# Altium footprint library BGA_Sq_100P.PcbLib: 114 footprints (part 9 of 31)
Each footprint in its own frame and in the unit in brackets; x right, y up, seen from the top. Pads: shape width x height; smd on the part's side, far side on the other; paste and mask are expansions set on the pad; w line width, h text height; cw(c..) or ccw(c..) is an arc to the next point about the centre after c.
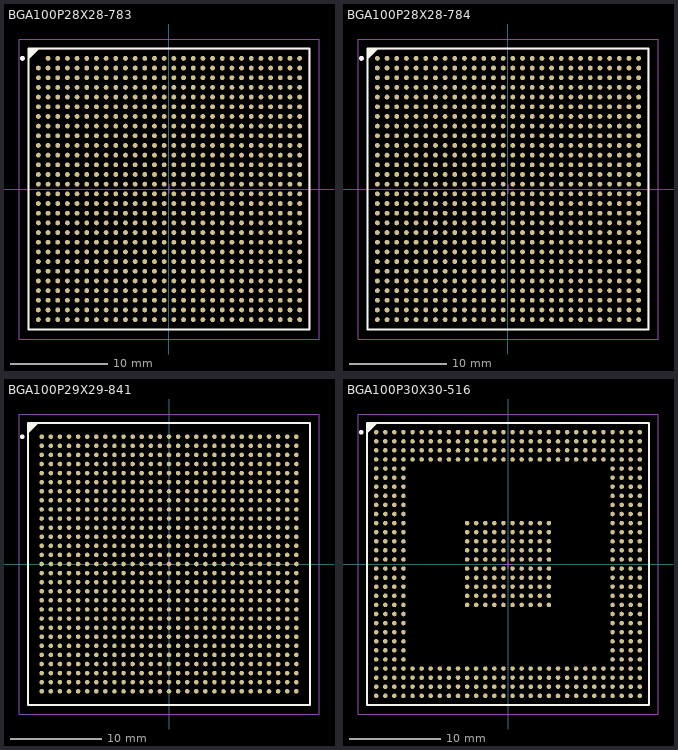
[diagram p8: the footprints below, top view; thin cyan lines are the x and y axes]

## BGA100P28X28-783 [mm] "BGA, 783-Leads, Body 29x29mm, Pitch 1mm"
height 3.27
pads (783):
  round 0.5 smd: A2(-12.5,13.5) A3(-11.5,13.5) A4(-10.5,13.5) A5(-9.5,13.5) A6(-8.5,13.5) A7(-7.5,13.5) A8(-6.5,13.5) A9(-5.5,13.5) A10(-4.5,13.5) A11(-3.5,13.5) A12(-2.5,13.5) A13(-1.5,13.5) A14(-0.5,13.5) A15(0.5,13.5) A16(1.5,13.5) A17(2.5,13.5) A18(3.5,13.5) A19(4.5,13.5) A20(5.5,13.5) A21(6.5,13.5) A22(7.5,13.5) A23(8.5,13.5) A24(9.5,13.5) A25(10.5,13.5) A26(11.5,13.5) A27(12.5,13.5) A28(13.5,13.5) AA1(-13.5,-6.5) AA2(-12.5,-6.5) AA3(-11.5,-6.5) AA4(-10.5,-6.5) AA5(-9.5,-6.5) AA6(-8.5,-6.5) AA7(-7.5,-6.5) AA8(-6.5,-6.5) AA9(-5.5,-6.5) AA10(-4.5,-6.5) AA11(-3.5,-6.5) AA12(-2.5,-6.5) AA13(-1.5,-6.5) AA14(-0.5,-6.5) AA15(0.5,-6.5) AA16(1.5,-6.5) AA17(2.5,-6.5) AA18(3.5,-6.5) AA19(4.5,-6.5) AA20(5.5,-6.5) AA21(6.5,-6.5) AA22(7.5,-6.5) AA23(8.5,-6.5) AA24(9.5,-6.5) AA25(10.5,-6.5) AA26(11.5,-6.5) AA27(12.5,-6.5) AA28(13.5,-6.5) AB1(-13.5,-7.5) AB2(-12.5,-7.5) AB3(-11.5,-7.5) AB4(-10.5,-7.5) AB5(-9.5,-7.5) AB6(-8.5,-7.5) AB7(-7.5,-7.5) AB8(-6.5,-7.5) AB9(-5.5,-7.5) AB10(-4.5,-7.5) AB11(-3.5,-7.5) AB12(-2.5,-7.5) AB13(-1.5,-7.5) AB14(-0.5,-7.5) AB15(0.5,-7.5) AB16(1.5,-7.5) AB17(2.5,-7.5) AB18(3.5,-7.5) AB19(4.5,-7.5) AB20(5.5,-7.5) AB21(6.5,-7.5) AB22(7.5,-7.5) AB23(8.5,-7.5) AB24(9.5,-7.5) AB25(10.5,-7.5) AB26(11.5,-7.5) AB27(12.5,-7.5) AB28(13.5,-7.5) AC1(-13.5,-8.5) AC2(-12.5,-8.5) AC3(-11.5,-8.5) AC4(-10.5,-8.5) AC5(-9.5,-8.5) AC6(-8.5,-8.5) AC7(-7.5,-8.5) AC8(-6.5,-8.5) AC9(-5.5,-8.5) AC10(-4.5,-8.5) AC11(-3.5,-8.5) AC12(-2.5,-8.5) AC13(-1.5,-8.5) AC14(-0.5,-8.5) AC15(0.5,-8.5) AC16(1.5,-8.5) AC17(2.5,-8.5) AC18(3.5,-8.5) AC19(4.5,-8.5) AC20(5.5,-8.5) AC21(6.5,-8.5) AC22(7.5,-8.5) AC23(8.5,-8.5) AC24(9.5,-8.5) AC25(10.5,-8.5) AC26(11.5,-8.5) AC27(12.5,-8.5) AC28(13.5,-8.5) AD1(-13.5,-9.5) AD2(-12.5,-9.5) AD3(-11.5,-9.5) AD4(-10.5,-9.5) AD5(-9.5,-9.5) AD6(-8.5,-9.5) AD7(-7.5,-9.5) AD8(-6.5,-9.5) AD9(-5.5,-9.5) AD10(-4.5,-9.5) AD11(-3.5,-9.5) AD12(-2.5,-9.5) AD13(-1.5,-9.5) AD14(-0.5,-9.5) AD15(0.5,-9.5) AD16(1.5,-9.5) AD17(2.5,-9.5) AD18(3.5,-9.5) AD19(4.5,-9.5) AD20(5.5,-9.5) AD21(6.5,-9.5) AD22(7.5,-9.5) AD23(8.5,-9.5) AD24(9.5,-9.5) AD25(10.5,-9.5) AD26(11.5,-9.5) AD27(12.5,-9.5) AD28(13.5,-9.5) AE1(-13.5,-10.5) AE2(-12.5,-10.5) AE3(-11.5,-10.5) AE4(-10.5,-10.5) AE5(-9.5,-10.5) AE6(-8.5,-10.5) AE7(-7.5,-10.5) AE8(-6.5,-10.5) AE9(-5.5,-10.5) AE10(-4.5,-10.5) AE11(-3.5,-10.5) AE12(-2.5,-10.5) AE13(-1.5,-10.5) AE14(-0.5,-10.5) AE15(0.5,-10.5) AE16(1.5,-10.5) AE17(2.5,-10.5) AE18(3.5,-10.5) AE19(4.5,-10.5) AE20(5.5,-10.5) AE21(6.5,-10.5) AE22(7.5,-10.5) AE23(8.5,-10.5) AE24(9.5,-10.5) AE25(10.5,-10.5) AE26(11.5,-10.5) AE27(12.5,-10.5) AE28(13.5,-10.5) AF1(-13.5,-11.5) AF2(-12.5,-11.5) AF3(-11.5,-11.5) AF4(-10.5,-11.5) AF5(-9.5,-11.5) AF6(-8.5,-11.5) AF7(-7.5,-11.5) AF8(-6.5,-11.5) AF9(-5.5,-11.5) AF10(-4.5,-11.5) AF11(-3.5,-11.5) AF12(-2.5,-11.5) AF13(-1.5,-11.5) AF14(-0.5,-11.5) AF15(0.5,-11.5) AF16(1.5,-11.5) AF17(2.5,-11.5) AF18(3.5,-11.5) AF19(4.5,-11.5) AF20(5.5,-11.5) AF21(6.5,-11.5) AF22(7.5,-11.5) AF23(8.5,-11.5) AF24(9.5,-11.5) AF25(10.5,-11.5) AF26(11.5,-11.5) AF27(12.5,-11.5) AF28(13.5,-11.5) AG1(-13.5,-12.5) AG2(-12.5,-12.5) AG3(-11.5,-12.5) AG4(-10.5,-12.5) AG5(-9.5,-12.5) AG6(-8.5,-12.5) AG7(-7.5,-12.5) AG8(-6.5,-12.5) AG9(-5.5,-12.5) AG10(-4.5,-12.5) AG11(-3.5,-12.5) AG12(-2.5,-12.5) AG13(-1.5,-12.5) AG14(-0.5,-12.5) AG15(0.5,-12.5) AG16(1.5,-12.5) AG17(2.5,-12.5) AG18(3.5,-12.5) AG19(4.5,-12.5) AG20(5.5,-12.5) AG21(6.5,-12.5) AG22(7.5,-12.5) AG23(8.5,-12.5) AG24(9.5,-12.5) AG25(10.5,-12.5) AG26(11.5,-12.5) AG27(12.5,-12.5) AG28(13.5,-12.5) AH1(-13.5,-13.5) AH2(-12.5,-13.5) AH3(-11.5,-13.5) AH4(-10.5,-13.5) AH5(-9.5,-13.5) AH6(-8.5,-13.5) AH7(-7.5,-13.5) AH8(-6.5,-13.5) AH9(-5.5,-13.5) AH10(-4.5,-13.5) AH11(-3.5,-13.5) AH12(-2.5,-13.5) AH13(-1.5,-13.5) AH14(-0.5,-13.5) AH15(0.5,-13.5) AH16(1.5,-13.5) AH17(2.5,-13.5) AH18(3.5,-13.5) AH19(4.5,-13.5) AH20(5.5,-13.5) AH21(6.5,-13.5) AH22(7.5,-13.5) AH23(8.5,-13.5) AH24(9.5,-13.5) AH25(10.5,-13.5) AH26(11.5,-13.5) AH27(12.5,-13.5) AH28(13.5,-13.5) B1(-13.5,12.5) B2(-12.5,12.5) B3(-11.5,12.5) B4(-10.5,12.5) B5(-9.5,12.5) B6(-8.5,12.5) B7(-7.5,12.5) B8(-6.5,12.5) B9(-5.5,12.5) B10(-4.5,12.5) B11(-3.5,12.5) B12(-2.5,12.5) B13(-1.5,12.5) B14(-0.5,12.5) B15(0.5,12.5) B16(1.5,12.5) B17(2.5,12.5) B18(3.5,12.5) B19(4.5,12.5) B20(5.5,12.5) B21(6.5,12.5) B22(7.5,12.5) B23(8.5,12.5) B24(9.5,12.5) B25(10.5,12.5) B26(11.5,12.5) B27(12.5,12.5) B28(13.5,12.5) C1(-13.5,11.5) C2(-12.5,11.5) C3(-11.5,11.5) C4(-10.5,11.5) C5(-9.5,11.5) C6(-8.5,11.5) C7(-7.5,11.5) C8(-6.5,11.5) C9(-5.5,11.5) C10(-4.5,11.5) C11(-3.5,11.5) C12(-2.5,11.5) C13(-1.5,11.5) C14(-0.5,11.5) C15(0.5,11.5) C16(1.5,11.5) C17(2.5,11.5) C18(3.5,11.5) C19(4.5,11.5) C20(5.5,11.5) C21(6.5,11.5) C22(7.5,11.5) C23(8.5,11.5) C24(9.5,11.5) C25(10.5,11.5) C26(11.5,11.5) C27(12.5,11.5) C28(13.5,11.5) D1(-13.5,10.5) D2(-12.5,10.5) D3(-11.5,10.5) D4(-10.5,10.5) D5(-9.5,10.5) D6(-8.5,10.5) D7(-7.5,10.5) D8(-6.5,10.5) D9(-5.5,10.5) D10(-4.5,10.5) D11(-3.5,10.5) D12(-2.5,10.5) D13(-1.5,10.5) D14(-0.5,10.5) D15(0.5,10.5) D16(1.5,10.5) D17(2.5,10.5) D18(3.5,10.5) D19(4.5,10.5) D20(5.5,10.5) D21(6.5,10.5) D22(7.5,10.5) D23(8.5,10.5) D24(9.5,10.5) D25(10.5,10.5) D26(11.5,10.5) D27(12.5,10.5) D28(13.5,10.5) E1(-13.5,9.5) E2(-12.5,9.5) E3(-11.5,9.5) E4(-10.5,9.5) E5(-9.5,9.5) E6(-8.5,9.5) E7(-7.5,9.5) E8(-6.5,9.5) E9(-5.5,9.5) E10(-4.5,9.5) E11(-3.5,9.5) E12(-2.5,9.5) E13(-1.5,9.5) E14(-0.5,9.5) E15(0.5,9.5) E16(1.5,9.5) E17(2.5,9.5) E18(3.5,9.5) E19(4.5,9.5) E20(5.5,9.5) E21(6.5,9.5) E22(7.5,9.5) E23(8.5,9.5) E24(9.5,9.5) E25(10.5,9.5) E26(11.5,9.5) E27(12.5,9.5) E28(13.5,9.5) F1(-13.5,8.5) F2(-12.5,8.5) F3(-11.5,8.5) F4(-10.5,8.5) F5(-9.5,8.5) F6(-8.5,8.5) F7(-7.5,8.5) F8(-6.5,8.5) F9(-5.5,8.5) F10(-4.5,8.5) F11(-3.5,8.5) F12(-2.5,8.5) F13(-1.5,8.5) F14(-0.5,8.5) F15(0.5,8.5) F16(1.5,8.5) F17(2.5,8.5) F18(3.5,8.5) F19(4.5,8.5) F20(5.5,8.5) F21(6.5,8.5) F22(7.5,8.5) F23(8.5,8.5) F24(9.5,8.5) F25(10.5,8.5) F26(11.5,8.5) F27(12.5,8.5) F28(13.5,8.5) G1(-13.5,7.5) G2(-12.5,7.5) G3(-11.5,7.5) G4(-10.5,7.5) G5(-9.5,7.5) G6(-8.5,7.5) G7(-7.5,7.5) G8(-6.5,7.5) G9(-5.5,7.5) G10(-4.5,7.5) G11(-3.5,7.5) G12(-2.5,7.5) G13(-1.5,7.5) G14(-0.5,7.5) G15(0.5,7.5) G16(1.5,7.5) G17(2.5,7.5) G18(3.5,7.5) G19(4.5,7.5) G20(5.5,7.5) G21(6.5,7.5) G22(7.5,7.5) G23(8.5,7.5) G24(9.5,7.5) G25(10.5,7.5) G26(11.5,7.5) G27(12.5,7.5) G28(13.5,7.5) H1(-13.5,6.5) H2(-12.5,6.5) H3(-11.5,6.5) H4(-10.5,6.5) H5(-9.5,6.5) H6(-8.5,6.5) H7(-7.5,6.5) H8(-6.5,6.5) H9(-5.5,6.5) H10(-4.5,6.5) H11(-3.5,6.5) H12(-2.5,6.5) H13(-1.5,6.5) H14(-0.5,6.5) H15(0.5,6.5) H16(1.5,6.5) H17(2.5,6.5) H18(3.5,6.5) H19(4.5,6.5) H20(5.5,6.5) H21(6.5,6.5) H22(7.5,6.5) H23(8.5,6.5) H24(9.5,6.5) H25(10.5,6.5) H26(11.5,6.5) H27(12.5,6.5) H28(13.5,6.5) J1(-13.5,5.5) J2(-12.5,5.5) J3(-11.5,5.5) J4(-10.5,5.5) J5(-9.5,5.5) J6(-8.5,5.5) J7(-7.5,5.5) J8(-6.5,5.5) J9(-5.5,5.5) J10(-4.5,5.5) J11(-3.5,5.5) J12(-2.5,5.5) J13(-1.5,5.5) J14(-0.5,5.5) J15(0.5,5.5) J16(1.5,5.5) J17(2.5,5.5) J18(3.5,5.5) J19(4.5,5.5) J20(5.5,5.5) J21(6.5,5.5) J22(7.5,5.5) J23(8.5,5.5) J24(9.5,5.5) J25(10.5,5.5) J26(11.5,5.5) J27(12.5,5.5) J28(13.5,5.5) K1(-13.5,4.5) K2(-12.5,4.5) K3(-11.5,4.5) K4(-10.5,4.5) K5(-9.5,4.5) K6(-8.5,4.5) K7(-7.5,4.5) K8(-6.5,4.5) K9(-5.5,4.5) K10(-4.5,4.5) K11(-3.5,4.5) K12(-2.5,4.5) K13(-1.5,4.5) K14(-0.5,4.5) K15(0.5,4.5) K16(1.5,4.5) K17(2.5,4.5) K18(3.5,4.5) K19(4.5,4.5) K20(5.5,4.5) K21(6.5,4.5) K22(7.5,4.5) K23(8.5,4.5) K24(9.5,4.5) K25(10.5,4.5) K26(11.5,4.5) K27(12.5,4.5) K28(13.5,4.5) L1(-13.5,3.5) L2(-12.5,3.5) L3(-11.5,3.5) L4(-10.5,3.5) L5(-9.5,3.5) L6(-8.5,3.5) L7(-7.5,3.5) L8(-6.5,3.5) L9(-5.5,3.5) L10(-4.5,3.5) L11(-3.5,3.5) L12(-2.5,3.5) L13(-1.5,3.5) L14(-0.5,3.5) L15(0.5,3.5) L16(1.5,3.5) L17(2.5,3.5) L18(3.5,3.5) L19(4.5,3.5) L20(5.5,3.5) L21(6.5,3.5) L22(7.5,3.5) L23(8.5,3.5) L24(9.5,3.5) L25(10.5,3.5) L26(11.5,3.5) L27(12.5,3.5) L28(13.5,3.5) M1(-13.5,2.5) M2(-12.5,2.5) M3(-11.5,2.5) M4(-10.5,2.5) M5(-9.5,2.5) M6(-8.5,2.5) M7(-7.5,2.5) M8(-6.5,2.5) M9(-5.5,2.5) M10(-4.5,2.5) M11(-3.5,2.5) M12(-2.5,2.5) M13(-1.5,2.5) M14(-0.5,2.5) M15(0.5,2.5) M16(1.5,2.5) M17(2.5,2.5) M18(3.5,2.5) M19(4.5,2.5) M20(5.5,2.5) M21(6.5,2.5) M22(7.5,2.5) M23(8.5,2.5) M24(9.5,2.5) M25(10.5,2.5) M26(11.5,2.5) M27(12.5,2.5) M28(13.5,2.5) N1(-13.5,1.5) N2(-12.5,1.5) N3(-11.5,1.5) N4(-10.5,1.5) N5(-9.5,1.5) N6(-8.5,1.5) N7(-7.5,1.5) N8(-6.5,1.5) N9(-5.5,1.5) N10(-4.5,1.5) N11(-3.5,1.5) N12(-2.5,1.5) N13(-1.5,1.5) N14(-0.5,1.5) N15(0.5,1.5) N16(1.5,1.5) N17(2.5,1.5) N18(3.5,1.5) N19(4.5,1.5) N20(5.5,1.5) N21(6.5,1.5) N22(7.5,1.5) N23(8.5,1.5) N24(9.5,1.5) N25(10.5,1.5) N26(11.5,1.5) N27(12.5,1.5) N28(13.5,1.5) P1(-13.5,0.5) P2(-12.5,0.5) P3(-11.5,0.5) P4(-10.5,0.5) P5(-9.5,0.5) P6(-8.5,0.5) P7(-7.5,0.5) P8(-6.5,0.5) P9(-5.5,0.5) P10(-4.5,0.5) P11(-3.5,0.5) P12(-2.5,0.5) P13(-1.5,0.5) P14(-0.5,0.5) P15(0.5,0.5) P16(1.5,0.5) P17(2.5,0.5) P18(3.5,0.5) P19(4.5,0.5) P20(5.5,0.5) P21(6.5,0.5) P22(7.5,0.5) P23(8.5,0.5) P24(9.5,0.5) P25(10.5,0.5) P26(11.5,0.5) P27(12.5,0.5) P28(13.5,0.5) R1(-13.5,-0.5) R2(-12.5,-0.5) R3(-11.5,-0.5) R4(-10.5,-0.5) R5(-9.5,-0.5) R6(-8.5,-0.5) R7(-7.5,-0.5) R8(-6.5,-0.5) R9(-5.5,-0.5) R10(-4.5,-0.5) R11(-3.5,-0.5) R12(-2.5,-0.5) R13(-1.5,-0.5) R14(-0.5,-0.5) R15(0.5,-0.5) R16(1.5,-0.5) R17(2.5,-0.5) R18(3.5,-0.5) R19(4.5,-0.5) R20(5.5,-0.5) R21(6.5,-0.5) R22(7.5,-0.5) R23(8.5,-0.5) R24(9.5,-0.5) R25(10.5,-0.5) R26(11.5,-0.5) R27(12.5,-0.5) R28(13.5,-0.5) T1(-13.5,-1.5) T2(-12.5,-1.5) T3(-11.5,-1.5) T4(-10.5,-1.5) T5(-9.5,-1.5) T6(-8.5,-1.5) T7(-7.5,-1.5) T8(-6.5,-1.5) T9(-5.5,-1.5) T10(-4.5,-1.5) T11(-3.5,-1.5) T12(-2.5,-1.5) T13(-1.5,-1.5) T14(-0.5,-1.5) T15(0.5,-1.5) T16(1.5,-1.5) T17(2.5,-1.5) T18(3.5,-1.5) T19(4.5,-1.5) T20(5.5,-1.5) T21(6.5,-1.5) T22(7.5,-1.5) T23(8.5,-1.5) T24(9.5,-1.5) T25(10.5,-1.5) T26(11.5,-1.5) T27(12.5,-1.5) T28(13.5,-1.5) U1(-13.5,-2.5) U2(-12.5,-2.5) U3(-11.5,-2.5) U4(-10.5,-2.5) U5(-9.5,-2.5) U6(-8.5,-2.5) U7(-7.5,-2.5) U8(-6.5,-2.5) U9(-5.5,-2.5) U10(-4.5,-2.5) U11(-3.5,-2.5) U12(-2.5,-2.5) U13(-1.5,-2.5) U14(-0.5,-2.5) U15(0.5,-2.5) U16(1.5,-2.5) U17(2.5,-2.5) U18(3.5,-2.5) U19(4.5,-2.5) U20(5.5,-2.5) U21(6.5,-2.5) U22(7.5,-2.5) U23(8.5,-2.5) U24(9.5,-2.5) U25(10.5,-2.5) U26(11.5,-2.5) U27(12.5,-2.5) U28(13.5,-2.5) V1(-13.5,-3.5) V2(-12.5,-3.5) V3(-11.5,-3.5) V4(-10.5,-3.5) V5(-9.5,-3.5) V6(-8.5,-3.5) V7(-7.5,-3.5) V8(-6.5,-3.5) V9(-5.5,-3.5) V10(-4.5,-3.5) V11(-3.5,-3.5) V12(-2.5,-3.5) V13(-1.5,-3.5) V14(-0.5,-3.5) V15(0.5,-3.5) V16(1.5,-3.5) V17(2.5,-3.5) V18(3.5,-3.5) V19(4.5,-3.5) V20(5.5,-3.5) V21(6.5,-3.5) V22(7.5,-3.5) V23(8.5,-3.5) V24(9.5,-3.5) V25(10.5,-3.5) V26(11.5,-3.5) V27(12.5,-3.5) V28(13.5,-3.5) W1(-13.5,-4.5) W2(-12.5,-4.5) W3(-11.5,-4.5) W4(-10.5,-4.5) W5(-9.5,-4.5) W6(-8.5,-4.5) W7(-7.5,-4.5) W8(-6.5,-4.5) W9(-5.5,-4.5) W10(-4.5,-4.5) W11(-3.5,-4.5) W12(-2.5,-4.5) W13(-1.5,-4.5) W14(-0.5,-4.5) W15(0.5,-4.5) W16(1.5,-4.5) W17(2.5,-4.5) W18(3.5,-4.5) W19(4.5,-4.5) W20(5.5,-4.5) W21(6.5,-4.5) W22(7.5,-4.5) W23(8.5,-4.5) W24(9.5,-4.5) W25(10.5,-4.5) W26(11.5,-4.5) W27(12.5,-4.5) W28(13.5,-4.5) Y1(-13.5,-5.5) Y2(-12.5,-5.5) Y3(-11.5,-5.5) Y4(-10.5,-5.5) Y5(-9.5,-5.5) Y6(-8.5,-5.5) Y7(-7.5,-5.5) Y8(-6.5,-5.5) Y9(-5.5,-5.5) Y10(-4.5,-5.5) Y11(-3.5,-5.5) Y12(-2.5,-5.5) Y13(-1.5,-5.5) Y14(-0.5,-5.5) Y15(0.5,-5.5) Y16(1.5,-5.5) Y17(2.5,-5.5) Y18(3.5,-5.5) Y19(4.5,-5.5) Y20(5.5,-5.5) Y21(6.5,-5.5) Y22(7.5,-5.5) Y23(8.5,-5.5) Y24(9.5,-5.5) Y25(10.5,-5.5) Y26(11.5,-5.5) Y27(12.5,-5.5) Y28(13.5,-5.5)
Top Overlay:
  circle w0.25: c-15.15,13.5 r0.125
  region: -13.5,14.5 -14.5,13.5 -14.5,14.5
  lines w0.2: -14.5,13.5 -13.5,14.5 ; -14.5,-14.5 14.5,-14.5 14.5,14.5 -14.5,14.5 -14.5,-14.5
Mechanical 13:
  lines w0.1: -14.5,-14.5 14.5,-14.5 14.5,14.5 -14.5,14.5 -14.5,-14.5
Mechanical 15:
  lines w0.1: -0.5,0 0.5,0 ; 0,-0.5 0,0.5 ; -15.5,-15.5 15.5,-15.5 15.5,15.5 -15.5,15.5 -15.5,-15.5
3D body: height 0, standoff 0, extent -14.5,-14.5 14.5,14.5

## BGA100P28X28-784 [mm] "BGA, 784-Leads, Body 29x29mm, Pitch 1mm"
height 3.5
pads (784):
  round 0.5 smd: A1(-13.5,13.5) A2(-12.5,13.5) A3(-11.5,13.5) A4(-10.5,13.5) A5(-9.5,13.5) A6(-8.5,13.5) A7(-7.5,13.5) A8(-6.5,13.5) A9(-5.5,13.5) A10(-4.5,13.5) A11(-3.5,13.5) A12(-2.5,13.5) A13(-1.5,13.5) A14(-0.5,13.5) A15(0.5,13.5) A16(1.5,13.5) A17(2.5,13.5) A18(3.5,13.5) A19(4.5,13.5) A20(5.5,13.5) A21(6.5,13.5) A22(7.5,13.5) A23(8.5,13.5) A24(9.5,13.5) A25(10.5,13.5) A26(11.5,13.5) A27(12.5,13.5) A28(13.5,13.5) AA1(-13.5,-6.5) AA2(-12.5,-6.5) AA3(-11.5,-6.5) AA4(-10.5,-6.5) AA5(-9.5,-6.5) AA6(-8.5,-6.5) AA7(-7.5,-6.5) AA8(-6.5,-6.5) AA9(-5.5,-6.5) AA10(-4.5,-6.5) AA11(-3.5,-6.5) AA12(-2.5,-6.5) AA13(-1.5,-6.5) AA14(-0.5,-6.5) AA15(0.5,-6.5) AA16(1.5,-6.5) AA17(2.5,-6.5) AA18(3.5,-6.5) AA19(4.5,-6.5) AA20(5.5,-6.5) AA21(6.5,-6.5) AA22(7.5,-6.5) AA23(8.5,-6.5) AA24(9.5,-6.5) AA25(10.5,-6.5) AA26(11.5,-6.5) AA27(12.5,-6.5) AA28(13.5,-6.5) AB1(-13.5,-7.5) AB2(-12.5,-7.5) AB3(-11.5,-7.5) AB4(-10.5,-7.5) AB5(-9.5,-7.5) AB6(-8.5,-7.5) AB7(-7.5,-7.5) AB8(-6.5,-7.5) AB9(-5.5,-7.5) AB10(-4.5,-7.5) AB11(-3.5,-7.5) AB12(-2.5,-7.5) AB13(-1.5,-7.5) AB14(-0.5,-7.5) AB15(0.5,-7.5) AB16(1.5,-7.5) AB17(2.5,-7.5) AB18(3.5,-7.5) AB19(4.5,-7.5) AB20(5.5,-7.5) AB21(6.5,-7.5) AB22(7.5,-7.5) AB23(8.5,-7.5) AB24(9.5,-7.5) AB25(10.5,-7.5) AB26(11.5,-7.5) AB27(12.5,-7.5) AB28(13.5,-7.5) AC1(-13.5,-8.5) AC2(-12.5,-8.5) AC3(-11.5,-8.5) AC4(-10.5,-8.5) AC5(-9.5,-8.5) AC6(-8.5,-8.5) AC7(-7.5,-8.5) AC8(-6.5,-8.5) AC9(-5.5,-8.5) AC10(-4.5,-8.5) AC11(-3.5,-8.5) AC12(-2.5,-8.5) AC13(-1.5,-8.5) AC14(-0.5,-8.5) AC15(0.5,-8.5) AC16(1.5,-8.5) AC17(2.5,-8.5) AC18(3.5,-8.5) AC19(4.5,-8.5) AC20(5.5,-8.5) AC21(6.5,-8.5) AC22(7.5,-8.5) AC23(8.5,-8.5) AC24(9.5,-8.5) AC25(10.5,-8.5) AC26(11.5,-8.5) AC27(12.5,-8.5) AC28(13.5,-8.5) AD1(-13.5,-9.5) AD2(-12.5,-9.5) AD3(-11.5,-9.5) AD4(-10.5,-9.5) AD5(-9.5,-9.5) AD6(-8.5,-9.5) AD7(-7.5,-9.5) AD8(-6.5,-9.5) AD9(-5.5,-9.5) AD10(-4.5,-9.5) AD11(-3.5,-9.5) AD12(-2.5,-9.5) AD13(-1.5,-9.5) AD14(-0.5,-9.5) AD15(0.5,-9.5) AD16(1.5,-9.5) AD17(2.5,-9.5) AD18(3.5,-9.5) AD19(4.5,-9.5) AD20(5.5,-9.5) AD21(6.5,-9.5) AD22(7.5,-9.5) AD23(8.5,-9.5) AD24(9.5,-9.5) AD25(10.5,-9.5) AD26(11.5,-9.5) AD27(12.5,-9.5) AD28(13.5,-9.5) AE1(-13.5,-10.5) AE2(-12.5,-10.5) AE3(-11.5,-10.5) AE4(-10.5,-10.5) AE5(-9.5,-10.5) AE6(-8.5,-10.5) AE7(-7.5,-10.5) AE8(-6.5,-10.5) AE9(-5.5,-10.5) AE10(-4.5,-10.5) AE11(-3.5,-10.5) AE12(-2.5,-10.5) AE13(-1.5,-10.5) AE14(-0.5,-10.5) AE15(0.5,-10.5) AE16(1.5,-10.5) AE17(2.5,-10.5) AE18(3.5,-10.5) AE19(4.5,-10.5) AE20(5.5,-10.5) AE21(6.5,-10.5) AE22(7.5,-10.5) AE23(8.5,-10.5) AE24(9.5,-10.5) AE25(10.5,-10.5) AE26(11.5,-10.5) AE27(12.5,-10.5) AE28(13.5,-10.5) AF1(-13.5,-11.5) AF2(-12.5,-11.5) AF3(-11.5,-11.5) AF4(-10.5,-11.5) AF5(-9.5,-11.5) AF6(-8.5,-11.5) AF7(-7.5,-11.5) AF8(-6.5,-11.5) AF9(-5.5,-11.5) AF10(-4.5,-11.5) AF11(-3.5,-11.5) AF12(-2.5,-11.5) AF13(-1.5,-11.5) AF14(-0.5,-11.5) AF15(0.5,-11.5) AF16(1.5,-11.5) AF17(2.5,-11.5) AF18(3.5,-11.5) AF19(4.5,-11.5) AF20(5.5,-11.5) AF21(6.5,-11.5) AF22(7.5,-11.5) AF23(8.5,-11.5) AF24(9.5,-11.5) AF25(10.5,-11.5) AF26(11.5,-11.5) AF27(12.5,-11.5) AF28(13.5,-11.5) AG1(-13.5,-12.5) AG2(-12.5,-12.5) AG3(-11.5,-12.5) AG4(-10.5,-12.5) AG5(-9.5,-12.5) AG6(-8.5,-12.5) AG7(-7.5,-12.5) AG8(-6.5,-12.5) AG9(-5.5,-12.5) AG10(-4.5,-12.5) AG11(-3.5,-12.5) AG12(-2.5,-12.5) AG13(-1.5,-12.5) AG14(-0.5,-12.5) AG15(0.5,-12.5) AG16(1.5,-12.5) AG17(2.5,-12.5) AG18(3.5,-12.5) AG19(4.5,-12.5) AG20(5.5,-12.5) AG21(6.5,-12.5) AG22(7.5,-12.5) AG23(8.5,-12.5) AG24(9.5,-12.5) AG25(10.5,-12.5) AG26(11.5,-12.5) AG27(12.5,-12.5) AG28(13.5,-12.5) AH1(-13.5,-13.5) AH2(-12.5,-13.5) AH3(-11.5,-13.5) AH4(-10.5,-13.5) AH5(-9.5,-13.5) AH6(-8.5,-13.5) AH7(-7.5,-13.5) AH8(-6.5,-13.5) AH9(-5.5,-13.5) AH10(-4.5,-13.5) AH11(-3.5,-13.5) AH12(-2.5,-13.5) AH13(-1.5,-13.5) AH14(-0.5,-13.5) AH15(0.5,-13.5) AH16(1.5,-13.5) AH17(2.5,-13.5) AH18(3.5,-13.5) AH19(4.5,-13.5) AH20(5.5,-13.5) AH21(6.5,-13.5) AH22(7.5,-13.5) AH23(8.5,-13.5) AH24(9.5,-13.5) AH25(10.5,-13.5) AH26(11.5,-13.5) AH27(12.5,-13.5) AH28(13.5,-13.5) B1(-13.5,12.5) B2(-12.5,12.5) B3(-11.5,12.5) B4(-10.5,12.5) B5(-9.5,12.5) B6(-8.5,12.5) B7(-7.5,12.5) B8(-6.5,12.5) B9(-5.5,12.5) B10(-4.5,12.5) B11(-3.5,12.5) B12(-2.5,12.5) B13(-1.5,12.5) B14(-0.5,12.5) B15(0.5,12.5) B16(1.5,12.5) B17(2.5,12.5) B18(3.5,12.5) B19(4.5,12.5) B20(5.5,12.5) B21(6.5,12.5) B22(7.5,12.5) B23(8.5,12.5) B24(9.5,12.5) B25(10.5,12.5) B26(11.5,12.5) B27(12.5,12.5) B28(13.5,12.5) C1(-13.5,11.5) C2(-12.5,11.5) C3(-11.5,11.5) C4(-10.5,11.5) C5(-9.5,11.5) C6(-8.5,11.5) C7(-7.5,11.5) C8(-6.5,11.5) C9(-5.5,11.5) C10(-4.5,11.5) C11(-3.5,11.5) C12(-2.5,11.5) C13(-1.5,11.5) C14(-0.5,11.5) C15(0.5,11.5) C16(1.5,11.5) C17(2.5,11.5) C18(3.5,11.5) C19(4.5,11.5) C20(5.5,11.5) C21(6.5,11.5) C22(7.5,11.5) C23(8.5,11.5) C24(9.5,11.5) C25(10.5,11.5) C26(11.5,11.5) C27(12.5,11.5) C28(13.5,11.5) D1(-13.5,10.5) D2(-12.5,10.5) D3(-11.5,10.5) D4(-10.5,10.5) D5(-9.5,10.5) D6(-8.5,10.5) D7(-7.5,10.5) D8(-6.5,10.5) D9(-5.5,10.5) D10(-4.5,10.5) D11(-3.5,10.5) D12(-2.5,10.5) D13(-1.5,10.5) D14(-0.5,10.5) D15(0.5,10.5) D16(1.5,10.5) D17(2.5,10.5) D18(3.5,10.5) D19(4.5,10.5) D20(5.5,10.5) D21(6.5,10.5) D22(7.5,10.5) D23(8.5,10.5) D24(9.5,10.5) D25(10.5,10.5) D26(11.5,10.5) D27(12.5,10.5) D28(13.5,10.5) E1(-13.5,9.5) E2(-12.5,9.5) E3(-11.5,9.5) E4(-10.5,9.5) E5(-9.5,9.5) E6(-8.5,9.5) E7(-7.5,9.5) E8(-6.5,9.5) E9(-5.5,9.5) E10(-4.5,9.5) E11(-3.5,9.5) E12(-2.5,9.5) E13(-1.5,9.5) E14(-0.5,9.5) E15(0.5,9.5) E16(1.5,9.5) E17(2.5,9.5) E18(3.5,9.5) E19(4.5,9.5) E20(5.5,9.5) E21(6.5,9.5) E22(7.5,9.5) E23(8.5,9.5) E24(9.5,9.5) E25(10.5,9.5) E26(11.5,9.5) E27(12.5,9.5) E28(13.5,9.5) F1(-13.5,8.5) F2(-12.5,8.5) F3(-11.5,8.5) F4(-10.5,8.5) F5(-9.5,8.5) F6(-8.5,8.5) F7(-7.5,8.5) F8(-6.5,8.5) F9(-5.5,8.5) F10(-4.5,8.5) F11(-3.5,8.5) F12(-2.5,8.5) F13(-1.5,8.5) F14(-0.5,8.5) F15(0.5,8.5) F16(1.5,8.5) F17(2.5,8.5) F18(3.5,8.5) F19(4.5,8.5) F20(5.5,8.5) F21(6.5,8.5) F22(7.5,8.5) F23(8.5,8.5) F24(9.5,8.5) F25(10.5,8.5) F26(11.5,8.5) F27(12.5,8.5) F28(13.5,8.5) G1(-13.5,7.5) G2(-12.5,7.5) G3(-11.5,7.5) G4(-10.5,7.5) G5(-9.5,7.5) G6(-8.5,7.5) G7(-7.5,7.5) G8(-6.5,7.5) G9(-5.5,7.5) G10(-4.5,7.5) G11(-3.5,7.5) G12(-2.5,7.5) G13(-1.5,7.5) G14(-0.5,7.5) G15(0.5,7.5) G16(1.5,7.5) G17(2.5,7.5) G18(3.5,7.5) G19(4.5,7.5) G20(5.5,7.5) G21(6.5,7.5) G22(7.5,7.5) G23(8.5,7.5) G24(9.5,7.5) G25(10.5,7.5) G26(11.5,7.5) G27(12.5,7.5) G28(13.5,7.5) H1(-13.5,6.5) H2(-12.5,6.5) H3(-11.5,6.5) H4(-10.5,6.5) H5(-9.5,6.5) H6(-8.5,6.5) H7(-7.5,6.5) H8(-6.5,6.5) H9(-5.5,6.5) H10(-4.5,6.5) H11(-3.5,6.5) H12(-2.5,6.5) H13(-1.5,6.5) H14(-0.5,6.5) H15(0.5,6.5) H16(1.5,6.5) H17(2.5,6.5) H18(3.5,6.5) H19(4.5,6.5) H20(5.5,6.5) H21(6.5,6.5) H22(7.5,6.5) H23(8.5,6.5) H24(9.5,6.5) H25(10.5,6.5) H26(11.5,6.5) H27(12.5,6.5) H28(13.5,6.5) J1(-13.5,5.5) J2(-12.5,5.5) J3(-11.5,5.5) J4(-10.5,5.5) J5(-9.5,5.5) J6(-8.5,5.5) J7(-7.5,5.5) J8(-6.5,5.5) J9(-5.5,5.5) J10(-4.5,5.5) J11(-3.5,5.5) J12(-2.5,5.5) J13(-1.5,5.5) J14(-0.5,5.5) J15(0.5,5.5) J16(1.5,5.5) J17(2.5,5.5) J18(3.5,5.5) J19(4.5,5.5) J20(5.5,5.5) J21(6.5,5.5) J22(7.5,5.5) J23(8.5,5.5) J24(9.5,5.5) J25(10.5,5.5) J26(11.5,5.5) J27(12.5,5.5) J28(13.5,5.5) K1(-13.5,4.5) K2(-12.5,4.5) K3(-11.5,4.5) K4(-10.5,4.5) K5(-9.5,4.5) K6(-8.5,4.5) K7(-7.5,4.5) K8(-6.5,4.5) K9(-5.5,4.5) K10(-4.5,4.5) K11(-3.5,4.5) K12(-2.5,4.5) K13(-1.5,4.5) K14(-0.5,4.5) K15(0.5,4.5) K16(1.5,4.5) K17(2.5,4.5) K18(3.5,4.5) K19(4.5,4.5) K20(5.5,4.5) K21(6.5,4.5) K22(7.5,4.5) K23(8.5,4.5) K24(9.5,4.5) K25(10.5,4.5) K26(11.5,4.5) K27(12.5,4.5) K28(13.5,4.5) L1(-13.5,3.5) L2(-12.5,3.5) L3(-11.5,3.5) L4(-10.5,3.5) L5(-9.5,3.5) L6(-8.5,3.5) L7(-7.5,3.5) L8(-6.5,3.5) L9(-5.5,3.5) L10(-4.5,3.5) L11(-3.5,3.5) L12(-2.5,3.5) L13(-1.5,3.5) L14(-0.5,3.5) L15(0.5,3.5) L16(1.5,3.5) L17(2.5,3.5) L18(3.5,3.5) L19(4.5,3.5) L20(5.5,3.5) L21(6.5,3.5) L22(7.5,3.5) L23(8.5,3.5) L24(9.5,3.5) L25(10.5,3.5) L26(11.5,3.5) L27(12.5,3.5) L28(13.5,3.5) M1(-13.5,2.5) M2(-12.5,2.5) M3(-11.5,2.5) M4(-10.5,2.5) M5(-9.5,2.5) M6(-8.5,2.5) M7(-7.5,2.5) M8(-6.5,2.5) M9(-5.5,2.5) M10(-4.5,2.5) M11(-3.5,2.5) M12(-2.5,2.5) M13(-1.5,2.5) M14(-0.5,2.5) M15(0.5,2.5) M16(1.5,2.5) M17(2.5,2.5) M18(3.5,2.5) M19(4.5,2.5) M20(5.5,2.5) M21(6.5,2.5) M22(7.5,2.5) M23(8.5,2.5) M24(9.5,2.5) M25(10.5,2.5) M26(11.5,2.5) M27(12.5,2.5) M28(13.5,2.5) N1(-13.5,1.5) N2(-12.5,1.5) N3(-11.5,1.5) N4(-10.5,1.5) N5(-9.5,1.5) N6(-8.5,1.5) N7(-7.5,1.5) N8(-6.5,1.5) N9(-5.5,1.5) N10(-4.5,1.5) N11(-3.5,1.5) N12(-2.5,1.5) N13(-1.5,1.5) N14(-0.5,1.5) N15(0.5,1.5) N16(1.5,1.5) N17(2.5,1.5) N18(3.5,1.5) N19(4.5,1.5) N20(5.5,1.5) N21(6.5,1.5) N22(7.5,1.5) N23(8.5,1.5) N24(9.5,1.5) N25(10.5,1.5) N26(11.5,1.5) N27(12.5,1.5) N28(13.5,1.5) P1(-13.5,0.5) P2(-12.5,0.5) P3(-11.5,0.5) P4(-10.5,0.5) P5(-9.5,0.5) P6(-8.5,0.5) P7(-7.5,0.5) P8(-6.5,0.5) P9(-5.5,0.5) P10(-4.5,0.5) P11(-3.5,0.5) P12(-2.5,0.5) P13(-1.5,0.5) P14(-0.5,0.5) P15(0.5,0.5) P16(1.5,0.5) P17(2.5,0.5) P18(3.5,0.5) P19(4.5,0.5) P20(5.5,0.5) P21(6.5,0.5) P22(7.5,0.5) P23(8.5,0.5) P24(9.5,0.5) P25(10.5,0.5) P26(11.5,0.5) P27(12.5,0.5) P28(13.5,0.5) R1(-13.5,-0.5) R2(-12.5,-0.5) R3(-11.5,-0.5) R4(-10.5,-0.5) R5(-9.5,-0.5) R6(-8.5,-0.5) R7(-7.5,-0.5) R8(-6.5,-0.5) R9(-5.5,-0.5) R10(-4.5,-0.5) R11(-3.5,-0.5) R12(-2.5,-0.5) R13(-1.5,-0.5) R14(-0.5,-0.5) R15(0.5,-0.5) R16(1.5,-0.5) R17(2.5,-0.5) R18(3.5,-0.5) R19(4.5,-0.5) R20(5.5,-0.5) R21(6.5,-0.5) R22(7.5,-0.5) R23(8.5,-0.5) R24(9.5,-0.5) R25(10.5,-0.5) R26(11.5,-0.5) R27(12.5,-0.5) R28(13.5,-0.5) T1(-13.5,-1.5) T2(-12.5,-1.5) T3(-11.5,-1.5) T4(-10.5,-1.5) T5(-9.5,-1.5) T6(-8.5,-1.5) T7(-7.5,-1.5) T8(-6.5,-1.5) T9(-5.5,-1.5) T10(-4.5,-1.5) T11(-3.5,-1.5) T12(-2.5,-1.5) T13(-1.5,-1.5) T14(-0.5,-1.5) T15(0.5,-1.5) T16(1.5,-1.5) T17(2.5,-1.5) T18(3.5,-1.5) T19(4.5,-1.5) T20(5.5,-1.5) T21(6.5,-1.5) T22(7.5,-1.5) T23(8.5,-1.5) T24(9.5,-1.5) T25(10.5,-1.5) T26(11.5,-1.5) T27(12.5,-1.5) T28(13.5,-1.5) U1(-13.5,-2.5) U2(-12.5,-2.5) U3(-11.5,-2.5) U4(-10.5,-2.5) U5(-9.5,-2.5) U6(-8.5,-2.5) U7(-7.5,-2.5) U8(-6.5,-2.5) U9(-5.5,-2.5) U10(-4.5,-2.5) U11(-3.5,-2.5) U12(-2.5,-2.5) U13(-1.5,-2.5) U14(-0.5,-2.5) U15(0.5,-2.5) U16(1.5,-2.5) U17(2.5,-2.5) U18(3.5,-2.5) U19(4.5,-2.5) U20(5.5,-2.5) U21(6.5,-2.5) U22(7.5,-2.5) U23(8.5,-2.5) U24(9.5,-2.5) U25(10.5,-2.5) U26(11.5,-2.5) U27(12.5,-2.5) U28(13.5,-2.5) V1(-13.5,-3.5) V2(-12.5,-3.5) V3(-11.5,-3.5) V4(-10.5,-3.5) V5(-9.5,-3.5) V6(-8.5,-3.5) V7(-7.5,-3.5) V8(-6.5,-3.5) V9(-5.5,-3.5) V10(-4.5,-3.5) V11(-3.5,-3.5) V12(-2.5,-3.5) V13(-1.5,-3.5) V14(-0.5,-3.5) V15(0.5,-3.5) V16(1.5,-3.5) V17(2.5,-3.5) V18(3.5,-3.5) V19(4.5,-3.5) V20(5.5,-3.5) V21(6.5,-3.5) V22(7.5,-3.5) V23(8.5,-3.5) V24(9.5,-3.5) V25(10.5,-3.5) V26(11.5,-3.5) V27(12.5,-3.5) V28(13.5,-3.5) W1(-13.5,-4.5) W2(-12.5,-4.5) W3(-11.5,-4.5) W4(-10.5,-4.5) W5(-9.5,-4.5) W6(-8.5,-4.5) W7(-7.5,-4.5) W8(-6.5,-4.5) W9(-5.5,-4.5) W10(-4.5,-4.5) W11(-3.5,-4.5) W12(-2.5,-4.5) W13(-1.5,-4.5) W14(-0.5,-4.5) W15(0.5,-4.5) W16(1.5,-4.5) W17(2.5,-4.5) W18(3.5,-4.5) W19(4.5,-4.5) W20(5.5,-4.5) W21(6.5,-4.5) W22(7.5,-4.5) W23(8.5,-4.5) W24(9.5,-4.5) W25(10.5,-4.5) W26(11.5,-4.5) W27(12.5,-4.5) W28(13.5,-4.5) Y1(-13.5,-5.5) Y2(-12.5,-5.5) Y3(-11.5,-5.5) Y4(-10.5,-5.5) Y5(-9.5,-5.5) Y6(-8.5,-5.5) Y7(-7.5,-5.5) Y8(-6.5,-5.5) Y9(-5.5,-5.5) Y10(-4.5,-5.5) Y11(-3.5,-5.5) Y12(-2.5,-5.5) Y13(-1.5,-5.5) Y14(-0.5,-5.5) Y15(0.5,-5.5) Y16(1.5,-5.5) Y17(2.5,-5.5) Y18(3.5,-5.5) Y19(4.5,-5.5) Y20(5.5,-5.5) Y21(6.5,-5.5) Y22(7.5,-5.5) Y23(8.5,-5.5) Y24(9.5,-5.5) Y25(10.5,-5.5) Y26(11.5,-5.5) Y27(12.5,-5.5) Y28(13.5,-5.5)
Top Overlay:
  circle w0.25: c-15.15,13.5 r0.125
  region: -13.5,14.5 -14.5,13.5 -14.5,14.5
  lines w0.2: -14.5,13.5 -13.5,14.5 ; -14.5,-14.5 -14.5,14.5 14.5,14.5 14.5,-14.5 -14.5,-14.5
Mechanical 13:
  lines w0.1: -14.5,-14.5 -14.5,14.5 14.5,14.5 14.5,-14.5 -14.5,-14.5
Mechanical 15:
  lines w0.1: -0.5,0 0.5,0 ; 0,-0.5 0,0.5 ; -15.5,-15.5 -15.5,15.5 15.5,15.5 15.5,-15.5 -15.5,-15.5
3D body: height 0, standoff 0, extent -14.5,-14.5 14.5,14.5

## BGA100P29X29-841 [mm] "BGA, 841-Leads, Body 31x31mm, Pitch 1mm"
height 3.5
pads (841):
  round 0.5 smd: A1(-14,14) A2(-13,14) A3(-12,14) A4(-11,14) A5(-10,14) A6(-9,14) A7(-8,14) A8(-7,14) A9(-6,14) A10(-5,14) A11(-4,14) A12(-3,14) A13(-2,14) A14(-1,14) A15(0,14) A16(1,14) A17(2,14) A18(3,14) A19(4,14) A20(5,14) A21(6,14) A22(7,14) A23(8,14) A24(9,14) A25(10,14) A26(11,14) A27(12,14) A28(13,14) A29(14,14) AA1(-14,-6) AA2(-13,-6) AA3(-12,-6) AA4(-11,-6) AA5(-10,-6) AA6(-9,-6) AA7(-8,-6) AA8(-7,-6) AA9(-6,-6) AA10(-5,-6) AA11(-4,-6) AA12(-3,-6) AA13(-2,-6) AA14(-1,-6) AA15(0,-6) AA16(1,-6) AA17(2,-6) AA18(3,-6) AA19(4,-6) AA20(5,-6) AA21(6,-6) AA22(7,-6) AA23(8,-6) AA24(9,-6) AA25(10,-6) AA26(11,-6) AA27(12,-6) AA28(13,-6) AA29(14,-6) AB1(-14,-7) AB2(-13,-7) AB3(-12,-7) AB4(-11,-7) AB5(-10,-7) AB6(-9,-7) AB7(-8,-7) AB8(-7,-7) AB9(-6,-7) AB10(-5,-7) AB11(-4,-7) AB12(-3,-7) AB13(-2,-7) AB14(-1,-7) AB15(0,-7) AB16(1,-7) AB17(2,-7) AB18(3,-7) AB19(4,-7) AB20(5,-7) AB21(6,-7) AB22(7,-7) AB23(8,-7) AB24(9,-7) AB25(10,-7) AB26(11,-7) AB27(12,-7) AB28(13,-7) AB29(14,-7) AC1(-14,-8) AC2(-13,-8) AC3(-12,-8) AC4(-11,-8) AC5(-10,-8) AC6(-9,-8) AC7(-8,-8) AC8(-7,-8) AC9(-6,-8) AC10(-5,-8) AC11(-4,-8) AC12(-3,-8) AC13(-2,-8) AC14(-1,-8) AC15(0,-8) AC16(1,-8) AC17(2,-8) AC18(3,-8) AC19(4,-8) AC20(5,-8) AC21(6,-8) AC22(7,-8) AC23(8,-8) AC24(9,-8) AC25(10,-8) AC26(11,-8) AC27(12,-8) AC28(13,-8) AC29(14,-8) AD1(-14,-9) AD2(-13,-9) AD3(-12,-9) AD4(-11,-9) AD5(-10,-9) AD6(-9,-9) AD7(-8,-9) AD8(-7,-9) AD9(-6,-9) AD10(-5,-9) AD11(-4,-9) AD12(-3,-9) AD13(-2,-9) AD14(-1,-9) AD15(0,-9) AD16(1,-9) AD17(2,-9) AD18(3,-9) AD19(4,-9) AD20(5,-9) AD21(6,-9) AD22(7,-9) AD23(8,-9) AD24(9,-9) AD25(10,-9) AD26(11,-9) AD27(12,-9) AD28(13,-9) AD29(14,-9) AE1(-14,-10) AE2(-13,-10) AE3(-12,-10) AE4(-11,-10) AE5(-10,-10) AE6(-9,-10) AE7(-8,-10) AE8(-7,-10) AE9(-6,-10) AE10(-5,-10) AE11(-4,-10) AE12(-3,-10) AE13(-2,-10) AE14(-1,-10) AE15(0,-10) AE16(1,-10) AE17(2,-10) AE18(3,-10) AE19(4,-10) AE20(5,-10) AE21(6,-10) AE22(7,-10) AE23(8,-10) AE24(9,-10) AE25(10,-10) AE26(11,-10) AE27(12,-10) AE28(13,-10) AE29(14,-10) AF1(-14,-11) AF2(-13,-11) AF3(-12,-11) AF4(-11,-11) AF5(-10,-11) AF6(-9,-11) AF7(-8,-11) AF8(-7,-11) AF9(-6,-11) AF10(-5,-11) AF11(-4,-11) AF12(-3,-11) AF13(-2,-11) AF14(-1,-11) AF15(0,-11) AF16(1,-11) AF17(2,-11) AF18(3,-11) AF19(4,-11) AF20(5,-11) AF21(6,-11) AF22(7,-11) AF23(8,-11) AF24(9,-11) AF25(10,-11) AF26(11,-11) AF27(12,-11) AF28(13,-11) AF29(14,-11) AG1(-14,-12) AG2(-13,-12) AG3(-12,-12) AG4(-11,-12) AG5(-10,-12) AG6(-9,-12) AG7(-8,-12) AG8(-7,-12) AG9(-6,-12) AG10(-5,-12) AG11(-4,-12) AG12(-3,-12) AG13(-2,-12) AG14(-1,-12) AG15(0,-12) AG16(1,-12) AG17(2,-12) AG18(3,-12) AG19(4,-12) AG20(5,-12) AG21(6,-12) AG22(7,-12) AG23(8,-12) AG24(9,-12) AG25(10,-12) AG26(11,-12) AG27(12,-12) AG28(13,-12) AG29(14,-12) AH1(-14,-13) AH2(-13,-13) AH3(-12,-13) AH4(-11,-13) AH5(-10,-13) AH6(-9,-13) AH7(-8,-13) AH8(-7,-13) AH9(-6,-13) AH10(-5,-13) AH11(-4,-13) AH12(-3,-13) AH13(-2,-13) AH14(-1,-13) AH15(0,-13) AH16(1,-13) AH17(2,-13) AH18(3,-13) AH19(4,-13) AH20(5,-13) AH21(6,-13) AH22(7,-13) AH23(8,-13) AH24(9,-13) AH25(10,-13) AH26(11,-13) AH27(12,-13) AH28(13,-13) AH29(14,-13) AJ1(-14,-14) AJ2(-13,-14) AJ3(-12,-14) AJ4(-11,-14) AJ5(-10,-14) AJ6(-9,-14) AJ7(-8,-14) AJ8(-7,-14) AJ9(-6,-14) AJ10(-5,-14) AJ11(-4,-14) AJ12(-3,-14) AJ13(-2,-14) AJ14(-1,-14) AJ15(0,-14) AJ16(1,-14) AJ17(2,-14) AJ18(3,-14) AJ19(4,-14) AJ20(5,-14) AJ21(6,-14) AJ22(7,-14) AJ23(8,-14) AJ24(9,-14) AJ25(10,-14) AJ26(11,-14) AJ27(12,-14) AJ28(13,-14) AJ29(14,-14) B1(-14,13) B2(-13,13) B3(-12,13) B4(-11,13) B5(-10,13) B6(-9,13) B7(-8,13) B8(-7,13) B9(-6,13) B10(-5,13) B11(-4,13) B12(-3,13) B13(-2,13) B14(-1,13) B15(0,13) B16(1,13) B17(2,13) B18(3,13) B19(4,13) B20(5,13) B21(6,13) B22(7,13) B23(8,13) B24(9,13) B25(10,13) B26(11,13) B27(12,13) B28(13,13) B29(14,13) C1(-14,12) C2(-13,12) C3(-12,12) C4(-11,12) C5(-10,12) C6(-9,12) C7(-8,12) C8(-7,12) C9(-6,12) C10(-5,12) C11(-4,12) C12(-3,12) C13(-2,12) C14(-1,12) C15(0,12) C16(1,12) C17(2,12) C18(3,12) C19(4,12) C20(5,12) C21(6,12) C22(7,12) C23(8,12) C24(9,12) C25(10,12) C26(11,12) C27(12,12) C28(13,12) C29(14,12) D1(-14,11) D2(-13,11) D3(-12,11) D4(-11,11) D5(-10,11) D6(-9,11) D7(-8,11) D8(-7,11) D9(-6,11) D10(-5,11) D11(-4,11) D12(-3,11) D13(-2,11) D14(-1,11) D15(0,11) D16(1,11) D17(2,11) D18(3,11) D19(4,11) D20(5,11) D21(6,11) D22(7,11) D23(8,11) D24(9,11) D25(10,11) D26(11,11) D27(12,11) D28(13,11) D29(14,11) E1(-14,10) E2(-13,10) E3(-12,10) E4(-11,10) E5(-10,10) E6(-9,10) E7(-8,10) E8(-7,10) E9(-6,10) E10(-5,10) E11(-4,10) E12(-3,10) E13(-2,10) E14(-1,10) E15(0,10) E16(1,10) E17(2,10) E18(3,10) E19(4,10) E20(5,10) E21(6,10) E22(7,10) E23(8,10) E24(9,10) E25(10,10) E26(11,10) E27(12,10) E28(13,10) E29(14,10) F1(-14,9) F2(-13,9) F3(-12,9) F4(-11,9) F5(-10,9) F6(-9,9) F7(-8,9) F8(-7,9) F9(-6,9) F10(-5,9) F11(-4,9) F12(-3,9) F13(-2,9) F14(-1,9) F15(0,9) F16(1,9) F17(2,9) F18(3,9) F19(4,9) F20(5,9) F21(6,9) F22(7,9) F23(8,9) F24(9,9) F25(10,9) F26(11,9) F27(12,9) F28(13,9) F29(14,9) G1(-14,8) G2(-13,8) G3(-12,8) G4(-11,8) G5(-10,8) G6(-9,8) G7(-8,8) G8(-7,8) G9(-6,8) G10(-5,8) G11(-4,8) G12(-3,8) G13(-2,8) G14(-1,8) G15(0,8) G16(1,8) G17(2,8) G18(3,8) G19(4,8) G20(5,8) G21(6,8) G22(7,8) G23(8,8) G24(9,8) G25(10,8) G26(11,8) G27(12,8) G28(13,8) G29(14,8) H1(-14,7) H2(-13,7) H3(-12,7) H4(-11,7) H5(-10,7) H6(-9,7) H7(-8,7) H8(-7,7) H9(-6,7) H10(-5,7) H11(-4,7) H12(-3,7) H13(-2,7) H14(-1,7) H15(0,7) H16(1,7) H17(2,7) H18(3,7) H19(4,7) H20(5,7) H21(6,7) H22(7,7) H23(8,7) H24(9,7) H25(10,7) H26(11,7) H27(12,7) H28(13,7) H29(14,7) J1(-14,6) J2(-13,6) J3(-12,6) J4(-11,6) J5(-10,6) J6(-9,6) J7(-8,6) J8(-7,6) J9(-6,6) J10(-5,6) J11(-4,6) J12(-3,6) J13(-2,6) J14(-1,6) J15(0,6) J16(1,6) J17(2,6) J18(3,6) J19(4,6) J20(5,6) J21(6,6) J22(7,6) J23(8,6) J24(9,6) J25(10,6) J26(11,6) J27(12,6) J28(13,6) J29(14,6) K1(-14,5) K2(-13,5) K3(-12,5) K4(-11,5) K5(-10,5) K6(-9,5) K7(-8,5) K8(-7,5) K9(-6,5) K10(-5,5) K11(-4,5) K12(-3,5) K13(-2,5) K14(-1,5) K15(0,5) K16(1,5) K17(2,5) K18(3,5) K19(4,5) K20(5,5) K21(6,5) K22(7,5) K23(8,5) K24(9,5) K25(10,5) K26(11,5) K27(12,5) K28(13,5) K29(14,5) L1(-14,4) L2(-13,4) L3(-12,4) L4(-11,4) L5(-10,4) L6(-9,4) L7(-8,4) L8(-7,4) L9(-6,4) L10(-5,4) L11(-4,4) L12(-3,4) L13(-2,4) L14(-1,4) L15(0,4) L16(1,4) L17(2,4) L18(3,4) L19(4,4) L20(5,4) L21(6,4) L22(7,4) L23(8,4) L24(9,4) L25(10,4) L26(11,4) L27(12,4) L28(13,4) L29(14,4) M1(-14,3) M2(-13,3) M3(-12,3) M4(-11,3) M5(-10,3) M6(-9,3) M7(-8,3) M8(-7,3) M9(-6,3) M10(-5,3) M11(-4,3) M12(-3,3) M13(-2,3) M14(-1,3) M15(0,3) M16(1,3) M17(2,3) M18(3,3) M19(4,3) M20(5,3) M21(6,3) M22(7,3) M23(8,3) M24(9,3) M25(10,3) M26(11,3) M27(12,3) M28(13,3) M29(14,3) N1(-14,2) N2(-13,2) N3(-12,2) N4(-11,2) N5(-10,2) N6(-9,2) N7(-8,2) N8(-7,2) N9(-6,2) N10(-5,2) N11(-4,2) N12(-3,2) N13(-2,2) N14(-1,2) N15(0,2) N16(1,2) N17(2,2) N18(3,2) N19(4,2) N20(5,2) N21(6,2) N22(7,2) N23(8,2) N24(9,2) N25(10,2) N26(11,2) N27(12,2) N28(13,2) N29(14,2) P1(-14,1) P2(-13,1) P3(-12,1) P4(-11,1) P5(-10,1) P6(-9,1) P7(-8,1) P8(-7,1) P9(-6,1) P10(-5,1) P11(-4,1) P12(-3,1) P13(-2,1) P14(-1,1) P15(0,1) P16(1,1) P17(2,1) P18(3,1) P19(4,1) P20(5,1) P21(6,1) P22(7,1) P23(8,1) P24(9,1) P25(10,1) P26(11,1) P27(12,1) P28(13,1) P29(14,1) R1(-14,0) R2(-13,0) R3(-12,0) R4(-11,0) R5(-10,0) R6(-9,0) R7(-8,0) R8(-7,0) R9(-6,0) R10(-5,0) R11(-4,0) R12(-3,0) R13(-2,0) R14(-1,0) R15(0,0) R16(1,0) R17(2,0) R18(3,0) R19(4,0) R20(5,0) R21(6,0) R22(7,0) R23(8,0) R24(9,0) R25(10,0) R26(11,0) R27(12,0) R28(13,0) R29(14,0) T1(-14,-1) T2(-13,-1) T3(-12,-1) T4(-11,-1) T5(-10,-1) T6(-9,-1) T7(-8,-1) T8(-7,-1) T9(-6,-1) T10(-5,-1) T11(-4,-1) T12(-3,-1) T13(-2,-1) T14(-1,-1) T15(0,-1) T16(1,-1) T17(2,-1) T18(3,-1) T19(4,-1) T20(5,-1) T21(6,-1) T22(7,-1) T23(8,-1) T24(9,-1) T25(10,-1) T26(11,-1) T27(12,-1) T28(13,-1) T29(14,-1) U1(-14,-2) U2(-13,-2) U3(-12,-2) U4(-11,-2) U5(-10,-2) U6(-9,-2) U7(-8,-2) U8(-7,-2) U9(-6,-2) U10(-5,-2) U11(-4,-2) U12(-3,-2) U13(-2,-2) U14(-1,-2) U15(0,-2) U16(1,-2) U17(2,-2) U18(3,-2) U19(4,-2) U20(5,-2) U21(6,-2) U22(7,-2) U23(8,-2) U24(9,-2) U25(10,-2) U26(11,-2) U27(12,-2) U28(13,-2) U29(14,-2) V1(-14,-3) V2(-13,-3) V3(-12,-3) V4(-11,-3) V5(-10,-3) V6(-9,-3) V7(-8,-3) V8(-7,-3) V9(-6,-3) V10(-5,-3) V11(-4,-3) V12(-3,-3) V13(-2,-3) V14(-1,-3) V15(0,-3) V16(1,-3) V17(2,-3) V18(3,-3) V19(4,-3) V20(5,-3) V21(6,-3) V22(7,-3) V23(8,-3) V24(9,-3) V25(10,-3) V26(11,-3) V27(12,-3) V28(13,-3) V29(14,-3) W1(-14,-4) W2(-13,-4) W3(-12,-4) W4(-11,-4) W5(-10,-4) W6(-9,-4) W7(-8,-4) W8(-7,-4) W9(-6,-4) W10(-5,-4) W11(-4,-4) W12(-3,-4) W13(-2,-4) W14(-1,-4) W15(0,-4) W16(1,-4) W17(2,-4) W18(3,-4) W19(4,-4) W20(5,-4) W21(6,-4) W22(7,-4) W23(8,-4) W24(9,-4) W25(10,-4) W26(11,-4) W27(12,-4) W28(13,-4) W29(14,-4) Y1(-14,-5) Y2(-13,-5) Y3(-12,-5) Y4(-11,-5) Y5(-10,-5) Y6(-9,-5) Y7(-8,-5) Y8(-7,-5) Y9(-6,-5) Y10(-5,-5) Y11(-4,-5) Y12(-3,-5) Y13(-2,-5) Y14(-1,-5) Y15(0,-5) Y16(1,-5) Y17(2,-5) Y18(3,-5) Y19(4,-5) Y20(5,-5) Y21(6,-5) Y22(7,-5) Y23(8,-5) Y24(9,-5) Y25(10,-5) Y26(11,-5) Y27(12,-5) Y28(13,-5) Y29(14,-5)
Top Overlay:
  circle w0.25: c-16.15,14 r0.125
  region: -14.5,15.5 -15.5,14.5 -15.5,15.5
  lines w0.2: -15.5,14.5 -14.5,15.5 ; -15.5,-15.5 -15.5,15.5 15.5,15.5 15.5,-15.5 -15.5,-15.5
Mechanical 13:
  lines w0.1: -15.5,-15.5 -15.5,15.5 15.5,15.5 15.5,-15.5 -15.5,-15.5
Mechanical 15:
  lines w0.1: -0.5,0 0.5,0 ; 0,-0.5 0,0.5 ; -16.5,-16.5 -16.5,16.5 16.5,16.5 16.5,-16.5 -16.5,-16.5
3D body: height 0, standoff 0, extent -15.5,-15.5 15.5,15.5

## BGA100P30X30-516 [mm] "BGA, 516-Leads, Body 31x31mm, Pitch 1mm"
height 2.6
pads (516):
  round 0.5 smd: A1(-14.5,14.5) A2(-13.5,14.5) A3(-12.5,14.5) A4(-11.5,14.5) A5(-10.5,14.5) A6(-9.5,14.5) A7(-8.5,14.5) A8(-7.5,14.5) A9(-6.5,14.5) A10(-5.5,14.5) A11(-4.5,14.5) A12(-3.5,14.5) A13(-2.5,14.5) A14(-1.5,14.5) A15(-0.5,14.5) A16(0.5,14.5) A17(1.5,14.5) A18(2.5,14.5) A19(3.5,14.5) A20(4.5,14.5) A21(5.5,14.5) A22(6.5,14.5) A23(7.5,14.5) A24(8.5,14.5) A25(9.5,14.5) A26(10.5,14.5) A27(11.5,14.5) A28(12.5,14.5) A29(13.5,14.5) A30(14.5,14.5) AA1(-14.5,-5.5) AA2(-13.5,-5.5) AA3(-12.5,-5.5) AA4(-11.5,-5.5) AA27(11.5,-5.5) AA28(12.5,-5.5) AA29(13.5,-5.5) AA30(14.5,-5.5) AB1(-14.5,-6.5) AB2(-13.5,-6.5) AB3(-12.5,-6.5) AB4(-11.5,-6.5) AB27(11.5,-6.5) AB28(12.5,-6.5) AB29(13.5,-6.5) AB30(14.5,-6.5) AC1(-14.5,-7.5) AC2(-13.5,-7.5) AC3(-12.5,-7.5) AC4(-11.5,-7.5) AC27(11.5,-7.5) AC28(12.5,-7.5) AC29(13.5,-7.5) AC30(14.5,-7.5) AD1(-14.5,-8.5) AD2(-13.5,-8.5) AD3(-12.5,-8.5) AD4(-11.5,-8.5) AD27(11.5,-8.5) AD28(12.5,-8.5) AD29(13.5,-8.5) AD30(14.5,-8.5) AE1(-14.5,-9.5) AE2(-13.5,-9.5) AE3(-12.5,-9.5) AE4(-11.5,-9.5) AE27(11.5,-9.5) AE28(12.5,-9.5) AE29(13.5,-9.5) AE30(14.5,-9.5) AF1(-14.5,-10.5) AF2(-13.5,-10.5) AF3(-12.5,-10.5) AF4(-11.5,-10.5) AF27(11.5,-10.5) AF28(12.5,-10.5) AF29(13.5,-10.5) AF30(14.5,-10.5) AG1(-14.5,-11.5) AG2(-13.5,-11.5) AG3(-12.5,-11.5) AG4(-11.5,-11.5) AG5(-10.5,-11.5) AG6(-9.5,-11.5) AG7(-8.5,-11.5) AG8(-7.5,-11.5) AG9(-6.5,-11.5) AG10(-5.5,-11.5) AG11(-4.5,-11.5) AG12(-3.5,-11.5) AG13(-2.5,-11.5) AG14(-1.5,-11.5) AG15(-0.5,-11.5) AG16(0.5,-11.5) AG17(1.5,-11.5) AG18(2.5,-11.5) AG19(3.5,-11.5) AG20(4.5,-11.5) AG21(5.5,-11.5) AG22(6.5,-11.5) AG23(7.5,-11.5) AG24(8.5,-11.5) AG25(9.5,-11.5) AG26(10.5,-11.5) AG27(11.5,-11.5) AG28(12.5,-11.5) AG29(13.5,-11.5) AG30(14.5,-11.5) AH1(-14.5,-12.5) AH2(-13.5,-12.5) AH3(-12.5,-12.5) AH4(-11.5,-12.5) AH5(-10.5,-12.5) AH6(-9.5,-12.5) AH7(-8.5,-12.5) AH8(-7.5,-12.5) AH9(-6.5,-12.5) AH10(-5.5,-12.5) AH11(-4.5,-12.5) AH12(-3.5,-12.5) AH13(-2.5,-12.5) AH14(-1.5,-12.5) AH15(-0.5,-12.5) AH16(0.5,-12.5) AH17(1.5,-12.5) AH18(2.5,-12.5) AH19(3.5,-12.5) AH20(4.5,-12.5) AH21(5.5,-12.5) AH22(6.5,-12.5) AH23(7.5,-12.5) AH24(8.5,-12.5) AH25(9.5,-12.5) AH26(10.5,-12.5) AH27(11.5,-12.5) AH28(12.5,-12.5) AH29(13.5,-12.5) AH30(14.5,-12.5) AJ1(-14.5,-13.5) AJ2(-13.5,-13.5) AJ3(-12.5,-13.5) AJ4(-11.5,-13.5) AJ5(-10.5,-13.5) AJ6(-9.5,-13.5) AJ7(-8.5,-13.5) AJ8(-7.5,-13.5) AJ9(-6.5,-13.5) AJ10(-5.5,-13.5) AJ11(-4.5,-13.5) AJ12(-3.5,-13.5) AJ13(-2.5,-13.5) AJ14(-1.5,-13.5) AJ15(-0.5,-13.5) AJ16(0.5,-13.5) AJ17(1.5,-13.5) AJ18(2.5,-13.5) AJ19(3.5,-13.5) AJ20(4.5,-13.5) AJ21(5.5,-13.5) AJ22(6.5,-13.5) AJ23(7.5,-13.5) AJ24(8.5,-13.5) AJ25(9.5,-13.5) AJ26(10.5,-13.5) AJ27(11.5,-13.5) AJ28(12.5,-13.5) AJ29(13.5,-13.5) AJ30(14.5,-13.5) AK1(-14.5,-14.5) AK2(-13.5,-14.5) AK3(-12.5,-14.5) AK4(-11.5,-14.5) AK5(-10.5,-14.5) AK6(-9.5,-14.5) AK7(-8.5,-14.5) AK8(-7.5,-14.5) AK9(-6.5,-14.5) AK10(-5.5,-14.5) AK11(-4.5,-14.5) AK12(-3.5,-14.5) AK13(-2.5,-14.5) AK14(-1.5,-14.5) AK15(-0.5,-14.5) AK16(0.5,-14.5) AK17(1.5,-14.5) AK18(2.5,-14.5) AK19(3.5,-14.5) AK20(4.5,-14.5) AK21(5.5,-14.5) AK22(6.5,-14.5) AK23(7.5,-14.5) AK24(8.5,-14.5) AK25(9.5,-14.5) AK26(10.5,-14.5) AK27(11.5,-14.5) AK28(12.5,-14.5) AK29(13.5,-14.5) AK30(14.5,-14.5) B1(-14.5,13.5) B2(-13.5,13.5) B3(-12.5,13.5) B4(-11.5,13.5) B5(-10.5,13.5) B6(-9.5,13.5) B7(-8.5,13.5) B8(-7.5,13.5) B9(-6.5,13.5) B10(-5.5,13.5) B11(-4.5,13.5) B12(-3.5,13.5) B13(-2.5,13.5) B14(-1.5,13.5) B15(-0.5,13.5) B16(0.5,13.5) B17(1.5,13.5) B18(2.5,13.5) B19(3.5,13.5) B20(4.5,13.5) B21(5.5,13.5) B22(6.5,13.5) B23(7.5,13.5) B24(8.5,13.5) B25(9.5,13.5) B26(10.5,13.5) B27(11.5,13.5) B28(12.5,13.5) B29(13.5,13.5) B30(14.5,13.5) C1(-14.5,12.5) C2(-13.5,12.5) C3(-12.5,12.5) C4(-11.5,12.5) C5(-10.5,12.5) C6(-9.5,12.5) C7(-8.5,12.5) C8(-7.5,12.5) C9(-6.5,12.5) C10(-5.5,12.5) C11(-4.5,12.5) C12(-3.5,12.5) C13(-2.5,12.5) C14(-1.5,12.5) C15(-0.5,12.5) C16(0.5,12.5) C17(1.5,12.5) C18(2.5,12.5) C19(3.5,12.5) C20(4.5,12.5) C21(5.5,12.5) C22(6.5,12.5) C23(7.5,12.5) C24(8.5,12.5) C25(9.5,12.5) C26(10.5,12.5) C27(11.5,12.5) C28(12.5,12.5) C29(13.5,12.5) C30(14.5,12.5) D1(-14.5,11.5) D2(-13.5,11.5) D3(-12.5,11.5) D4(-11.5,11.5) D5(-10.5,11.5) D6(-9.5,11.5) D7(-8.5,11.5) D8(-7.5,11.5) D9(-6.5,11.5) D10(-5.5,11.5) D11(-4.5,11.5) D12(-3.5,11.5) D13(-2.5,11.5) D14(-1.5,11.5) D15(-0.5,11.5) D16(0.5,11.5) D17(1.5,11.5) D18(2.5,11.5) D19(3.5,11.5) D20(4.5,11.5) D21(5.5,11.5) D22(6.5,11.5) D23(7.5,11.5) D24(8.5,11.5) D25(9.5,11.5) D26(10.5,11.5) D27(11.5,11.5) D28(12.5,11.5) D29(13.5,11.5) D30(14.5,11.5) E1(-14.5,10.5) E2(-13.5,10.5) E3(-12.5,10.5) E4(-11.5,10.5) E27(11.5,10.5) E28(12.5,10.5) E29(13.5,10.5) E30(14.5,10.5) F1(-14.5,9.5) F2(-13.5,9.5) F3(-12.5,9.5) F4(-11.5,9.5) F27(11.5,9.5) F28(12.5,9.5) F29(13.5,9.5) F30(14.5,9.5) G1(-14.5,8.5) G2(-13.5,8.5) G3(-12.5,8.5) G4(-11.5,8.5) G27(11.5,8.5) G28(12.5,8.5) G29(13.5,8.5) G30(14.5,8.5) H1(-14.5,7.5) H2(-13.5,7.5) H3(-12.5,7.5) H4(-11.5,7.5) H27(11.5,7.5) H28(12.5,7.5) H29(13.5,7.5) H30(14.5,7.5) J1(-14.5,6.5) J2(-13.5,6.5) J3(-12.5,6.5) J4(-11.5,6.5) J27(11.5,6.5) J28(12.5,6.5) J29(13.5,6.5) J30(14.5,6.5) K1(-14.5,5.5) K2(-13.5,5.5) K3(-12.5,5.5) K4(-11.5,5.5) K27(11.5,5.5) K28(12.5,5.5) K29(13.5,5.5) K30(14.5,5.5) L1(-14.5,4.5) L2(-13.5,4.5) L3(-12.5,4.5) L4(-11.5,4.5) L11(-4.5,4.5) L12(-3.5,4.5) L13(-2.5,4.5) L14(-1.5,4.5) L15(-0.5,4.5) L16(0.5,4.5) L17(1.5,4.5) L18(2.5,4.5) L19(3.5,4.5) L20(4.5,4.5) L27(11.5,4.5) L28(12.5,4.5) L29(13.5,4.5) L30(14.5,4.5) M1(-14.5,3.5) M2(-13.5,3.5) M3(-12.5,3.5) M4(-11.5,3.5) M11(-4.5,3.5) M12(-3.5,3.5) M13(-2.5,3.5) M14(-1.5,3.5) M15(-0.5,3.5) M16(0.5,3.5) M17(1.5,3.5) M18(2.5,3.5) M19(3.5,3.5) M20(4.5,3.5) M27(11.5,3.5) M28(12.5,3.5) M29(13.5,3.5) M30(14.5,3.5) N1(-14.5,2.5) N2(-13.5,2.5) N3(-12.5,2.5) N4(-11.5,2.5) N11(-4.5,2.5) N12(-3.5,2.5) N13(-2.5,2.5) N14(-1.5,2.5) N15(-0.5,2.5) N16(0.5,2.5) N17(1.5,2.5) N18(2.5,2.5) N19(3.5,2.5) N20(4.5,2.5) N27(11.5,2.5) N28(12.5,2.5) N29(13.5,2.5) N30(14.5,2.5) P1(-14.5,1.5) P2(-13.5,1.5) P3(-12.5,1.5) P4(-11.5,1.5) P11(-4.5,1.5) P12(-3.5,1.5) P13(-2.5,1.5) P14(-1.5,1.5) P15(-0.5,1.5) P16(0.5,1.5) P17(1.5,1.5) P18(2.5,1.5) P19(3.5,1.5) P20(4.5,1.5) P27(11.5,1.5) P28(12.5,1.5) P29(13.5,1.5) P30(14.5,1.5) R1(-14.5,0.5) R2(-13.5,0.5) R3(-12.5,0.5) R4(-11.5,0.5) R11(-4.5,0.5) R12(-3.5,0.5) R13(-2.5,0.5) R14(-1.5,0.5) R15(-0.5,0.5) R16(0.5,0.5) R17(1.5,0.5) R18(2.5,0.5) R19(3.5,0.5) R20(4.5,0.5) R27(11.5,0.5) R28(12.5,0.5) R29(13.5,0.5) R30(14.5,0.5) T1(-14.5,-0.5) T2(-13.5,-0.5) T3(-12.5,-0.5) T4(-11.5,-0.5) T11(-4.5,-0.5) T12(-3.5,-0.5) T13(-2.5,-0.5) T14(-1.5,-0.5) T15(-0.5,-0.5) T16(0.5,-0.5) T17(1.5,-0.5) T18(2.5,-0.5) T19(3.5,-0.5) T20(4.5,-0.5) T27(11.5,-0.5) T28(12.5,-0.5) T29(13.5,-0.5) T30(14.5,-0.5) U1(-14.5,-1.5) U2(-13.5,-1.5) U3(-12.5,-1.5) U4(-11.5,-1.5) U11(-4.5,-1.5) U12(-3.5,-1.5) U13(-2.5,-1.5) U14(-1.5,-1.5) U15(-0.5,-1.5) U16(0.5,-1.5) U17(1.5,-1.5) U18(2.5,-1.5) U19(3.5,-1.5) U20(4.5,-1.5) U27(11.5,-1.5) U28(12.5,-1.5) U29(13.5,-1.5) U30(14.5,-1.5) V1(-14.5,-2.5) V2(-13.5,-2.5) V3(-12.5,-2.5) V4(-11.5,-2.5) V11(-4.5,-2.5) V12(-3.5,-2.5) V13(-2.5,-2.5) V14(-1.5,-2.5) V15(-0.5,-2.5) V16(0.5,-2.5) V17(1.5,-2.5) V18(2.5,-2.5) V19(3.5,-2.5) V20(4.5,-2.5) V27(11.5,-2.5) V28(12.5,-2.5) V29(13.5,-2.5) V30(14.5,-2.5) W1(-14.5,-3.5) W2(-13.5,-3.5) W3(-12.5,-3.5) W4(-11.5,-3.5) W11(-4.5,-3.5) W12(-3.5,-3.5) W13(-2.5,-3.5) W14(-1.5,-3.5) W15(-0.5,-3.5) W16(0.5,-3.5) W17(1.5,-3.5) W18(2.5,-3.5) W19(3.5,-3.5) W20(4.5,-3.5) W27(11.5,-3.5) W28(12.5,-3.5) W29(13.5,-3.5) W30(14.5,-3.5) Y1(-14.5,-4.5) Y2(-13.5,-4.5) Y3(-12.5,-4.5) Y4(-11.5,-4.5) Y11(-4.5,-4.5) Y12(-3.5,-4.5) Y13(-2.5,-4.5) Y14(-1.5,-4.5) Y15(-0.5,-4.5) Y16(0.5,-4.5) Y17(1.5,-4.5) Y18(2.5,-4.5) Y19(3.5,-4.5) Y20(4.5,-4.5) Y27(11.5,-4.5) Y28(12.5,-4.5) Y29(13.5,-4.5) Y30(14.5,-4.5)
Top Overlay:
  circle w0.25: c-16.15,14.5 r0.125
  region: -14.5,15.5 -15.5,14.5 -15.5,15.5
  lines w0.2: -15.5,14.5 -14.5,15.5 ; -15.5,-15.5 -15.5,15.5 15.5,15.5 15.5,-15.5 -15.5,-15.5
Mechanical 13:
  lines w0.1: -15.5,-15.5 -15.5,15.5 15.5,15.5 15.5,-15.5 -15.5,-15.5
Mechanical 15:
  lines w0.1: -0.5,0 0.5,0 ; 0,-0.5 0,0.5 ; -16.5,-16.5 -16.5,16.5 16.5,16.5 16.5,-16.5 -16.5,-16.5
3D body: height 0, standoff 0, extent -15.5,-15.5 15.5,15.5